# EAGLE library part KF33BD (library 1_USER)
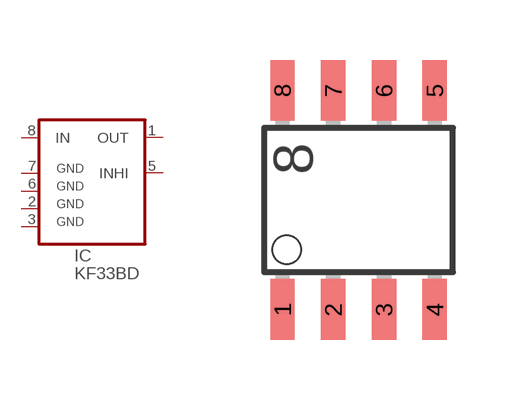
[diagram p7: symbol with the pads of SO8; footprint SO8]

Designator prefix IC

## KF33BD  [SO8]
1  OUT  out
2  GND_2  pwr
3  GND_3  pwr
5  INHI  in
6  GND_6  pwr
7  GND_7  pwr
8  IN  in

## Footprint SO8 (pad centres in mm)
smd 0.61 x 1.524: 1 -1.27,-2.743; 2 0,-2.743; 3 1.27,-2.743; 4 2.54,-2.743; 5 2.54,2.743; 6 1.27,2.743; 7 0,2.743; 8 -1.27,2.743